# Altium schematic symbol library projectSpecificLib_sch.SchLib: 1 symbol
Pins are listed as number, name and electrical type; pins without a type are passive.

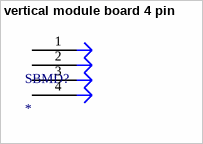
[diagram p0: symbol vertical module board 4 pin]

## vertical module board 4 pin
designator SBMD?
footprint vertical submodule board female (for 2x2 right angle raised pogo pins)
footprint vertical submodule pcb male (carrier for 2x2 pogo pins)
pins: 1, 2, 3, 4